# Altium footprint library PCB - LEADLESS - QFN - TI VQFN-HR-26 RNF0026C.PcbLib: 1 footprints
Each footprint in its own frame and in the unit in brackets; x right, y up, seen from the top. Pads: shape width x height; smd on the part's side, far side on the other; paste and mask are expansions set on the pad; w line width, h text height; cw(c..) or ccw(c..) is an arc to the next point about the centre after c.
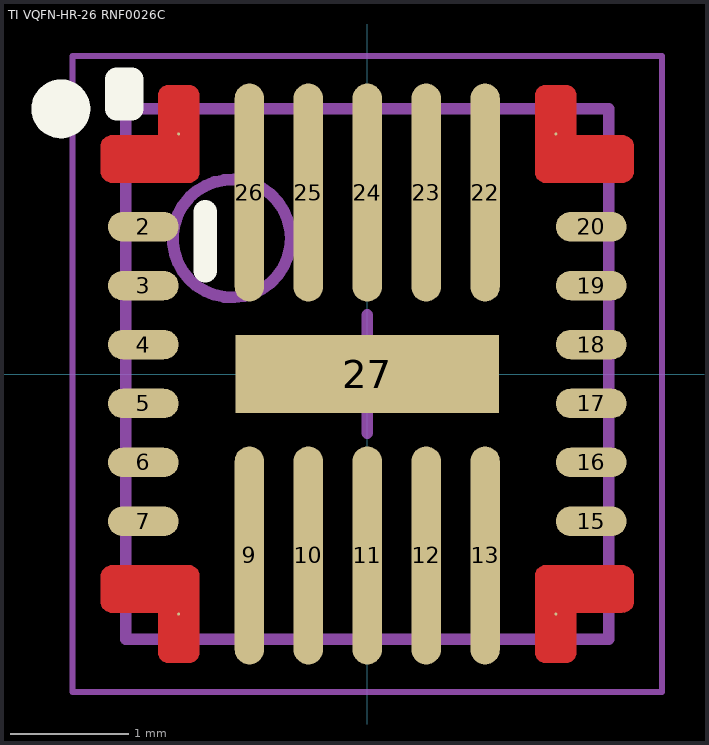
[diagram p0: the footprint, top view; thin cyan lines are the x and y axes]

## TI VQFN-HR-26 RNF0026C [mm] "VQFN-HR, 26-Leads, Body 4.00x4.00mm, Pitch 0.50mm, Thermal Pad 2.24x0.66mm"
height 0.9
pads (27):
  round 0.025 smd: 1(-1.6,2.037) 8(-1.6,-2.037) 14(1.6,-2.037) 21(1.6,2.037)
  oval 0.6x0.25 smd: 2(-1.9,1.25) 3(-1.9,0.75) 4(-1.9,0.25) 5(-1.9,-0.25) 6(-1.9,-0.75) 7(-1.9,-1.25) 15(1.9,-1.25) 16(1.9,-0.75) 17(1.9,-0.25) 18(1.9,0.25) 19(1.9,0.75) 20(1.9,1.25)
  oval 0.25x1.85 smd: 9(-1,-1.54) 10(-0.5,-1.54) 11(0,-1.54) 12(0.5,-1.54) 13(1,-1.54) 22(1,1.54) 23(0.5,1.54) 24(0,1.54) 25(-0.5,1.54) 26(-1,1.54)
  rect 2.24x0.66 smd: 27(0,0)
Top Layer:
  region: 2.262,-1.725 2.262,-1.925 2.262,-1.945 2.247,-1.982 2.219,-2.01 2.182,-2.025 2.163,-2.025 1.775,-2.025 1.775,-2.363 1.775,-2.38 1.762,-2.412 1.737,-2.437 1.705,-2.45 1.687,-2.45 1.688,-2.45 1.512,-2.45 1.495,-2.45 1.463,-2.437 1.438,-2.412 1.425,-2.38 1.425,-2.363 1.425,-1.712 1.425,-1.695 1.438,-1.663 1.463,-1.638 1.495,-1.625 1.512,-1.625 2.163,-1.625 2.182,-1.625 2.219,-1.64 2.247,-1.668 2.262,-1.705
  region: 2.262,1.725 2.262,1.925 2.262,1.945 2.247,1.982 2.219,2.01 2.182,2.025 2.163,2.025 1.775,2.025 1.775,2.362 1.775,2.38 1.762,2.412 1.737,2.437 1.705,2.45 1.688,2.45 1.512,2.45 1.495,2.45 1.463,2.437 1.438,2.412 1.425,2.38 1.425,2.363 1.425,1.712 1.425,1.695 1.438,1.663 1.463,1.638 1.495,1.625 1.512,1.625 2.163,1.625 2.182,1.625 2.219,1.64 2.247,1.668 2.262,1.705
  region: -2.262,-1.725 -2.262,-1.925 -2.262,-1.945 -2.247,-1.982 -2.219,-2.01 -2.182,-2.025 -2.163,-2.025 -1.775,-2.025 -1.775,-2.363 -1.775,-2.38 -1.762,-2.412 -1.737,-2.437 -1.705,-2.45 -1.688,-2.45 -1.512,-2.45 -1.495,-2.45 -1.463,-2.437 -1.438,-2.412 -1.425,-2.38 -1.425,-2.363 -1.425,-1.712 -1.425,-1.695 -1.438,-1.663 -1.463,-1.638 -1.495,-1.625 -1.512,-1.625 -2.163,-1.625 -2.182,-1.625 -2.219,-1.64 -2.247,-1.668 -2.262,-1.705
  region: -2.262,1.725 -2.262,1.925 -2.262,1.945 -2.247,1.982 -2.219,2.01 -2.182,2.025 -2.163,2.025 -1.775,2.025 -1.775,2.363 -1.775,2.38 -1.762,2.412 -1.737,2.437 -1.705,2.45 -1.688,2.45 -1.512,2.45 -1.495,2.45 -1.463,2.437 -1.438,2.412 -1.425,2.38 -1.425,2.363 -1.425,1.712 -1.425,1.695 -1.438,1.663 -1.463,1.638 -1.495,1.625 -1.512,1.625 -2.163,1.625 -2.182,1.625 -2.219,1.64 -2.247,1.668 -2.262,1.705
Top Overlay:
  circle w0.25: c-2.6,2.25 r0.125
  lines w0.2: -1.375,0.875 -1.375,1.375 ; -2.125,2.25 -2.125,2.5 -2,2.5 -2,2.25 -2.125,2.25
Mechanical 13:
  circle w0.1: c-1.15,1.15 r0.5
  lines w0.1: -2.05,-2.25 -2.05,2.25 2.05,2.25 2.05,-2.25 -2.05,-2.25
Mechanical 15:
  lines w0.05: -2.5,-2.7 2.5,-2.7 2.5,2.7 -2.5,2.7 -2.5,-2.7
  lines w0.1: -0.5,0 0.5,0 ; 0,-0.5 0,0.5
3D body "TI VQFN-HR-26 RNF0026C.step": height 0.9, standoff 0, extent -2.01,-2.26 2.01,2.26